# Altium schematic symbol library conectores.SchLib: 13 symbols
Pins are listed as number, name and electrical type; pins without a type are passive.

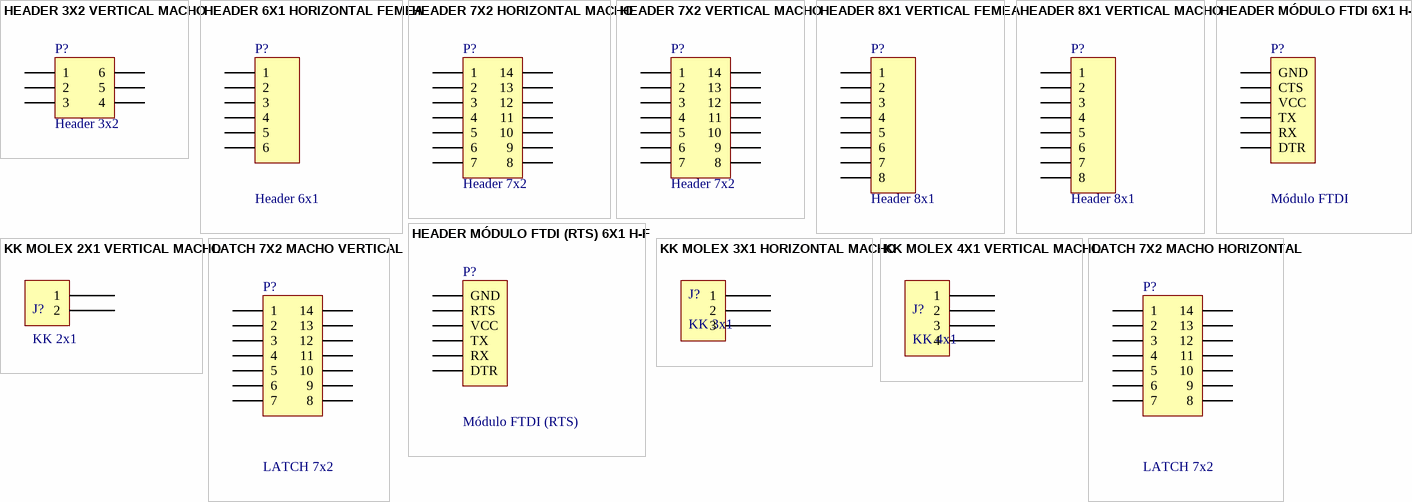
[diagram p0: symbols HEADER 3X2 VERTICAL MACHO to LATCH 7X2 MACHO VERTICAL]

## HEADER 3X2 VERTICAL MACHO
designator P?, comment Header 3x2
Header, 6-Pin, Dual row, Vertical, Male
footprint HEADER 3X2 VERTICAL MACHO (Connector; Header; 3x2 Position)
pins: 1, 2, 3, 4, 5, 6

## HEADER 6X1 HORIZONTAL FEMEA
designator P?, comment Header 6x1
Header, 6-Pin, Horizontal, Female
footprint HEADER 6X1 HORIZONTAL FEMEA (Connector; Header; 6 Position, Horizontal, Female)
pins: 1, 2, 3, 4, 5, 6

## HEADER 7X2 HORIZONTAL MACHO
designator P?, comment Header 7x2
Header, 7-Pin, Dual row, Horizontal, Male; Publisher: Altium Limited
footprint Header 7x2 Horizontal Macho (Connector; Header; 7x2 Position, Horizontal)
signal-integrity model Connector
pins: 1, 2, 3, 4, 5, 6, 7, 8, 9, 10, 11, 12, 13, 14

## HEADER 7X2 VERTICAL MACHO
designator P?, comment Header 7x2
Header, 7-Pin, Dual row, Vertical, Male; Publisher: Altium Limited
footprint Header 7x2 Vertical Macho (Connector; Header; 7x2 Position, Vertical)
signal-integrity model Connector
pins: 1, 2, 3, 4, 5, 6, 7, 8, 9, 10, 11, 12, 13, 14

## HEADER 8X1 VERTICAL FEMEA
designator P?, comment Header 8x1
Header, 8-Pin, Vertical, Female
footprint HEADER 8X1 VERTICAL FEMEA (Connector; Header; 8 Position, Vertical, Female)
signal-integrity model Connector
pins: 1, 2, 3, 4, 5, 6, 7, 8

## HEADER 8X1 VERTICAL MACHO
designator P?, comment Header 8x1
Header, 8-Pin, Vertical, Male
footprint HEADER 8X1 VERTICAL MACHO (Connector; Header; 8 Position, Vertical, Male)
signal-integrity model Connector
pins: 1, 2, 3, 4, 5, 6, 7, 8

## HEADER MÓDULO FTDI 6X1 H-F
designator P?, comment Módulo FTDI
Header, 6-Pin, Horizontal, Female; Obs: Visão da PCB, não do módulo
footprint HEADER 6X1 HORIZONTAL FEMEA (Connector; Header; 6 Position, Horizontal, Female)
pins: 1 GND, 2 CTS, 3 VCC, 4 TX, 5 RX, 6 DTR

## HEADER MÓDULO FTDI (RTS) 6X1 H-F
designator P?, comment Módulo FTDI (RTS)
Header, 6-Pin, Horizontal, Female; Obs: Visão da PCB, não do módulo; Obs: Versão com RTS, não CTS
footprint HEADER 6X1 HORIZONTAL FEMEA (Connector; Header; 6 Position, Horizontal, Female)
pins: 1 GND, 2 RTS, 3 VCC, 4 TX, 5 RX, 6 DTR

## KK MOLEX 2X1 VERTICAL MACHO
designator J?, comment KK 2x1
KK 2x1 Molex 396
footprint MOLEX KK 396 2 PINOS VERTICAL MACHO
pins: 1, 2

## KK MOLEX 3X1 HORIZONTAL MACHO
designator J?, comment KK 3x1
KK 3x1 Molex 396
footprint MOLEX KK 396 3 PINOS HORIZONTAL MACHO
pins: 1, 2, 3

## KK MOLEX 4X1 VERTICAL MACHO
designator J?, comment KK 4x1
KK 4x1 Molex 396
footprint MOLEX KK 396 4 PINOS VERTICAL MACHO
pins: 1, 2, 3, 4

## LATCH 7X2 MACHO HORIZONTAL
designator P?, comment LATCH 7x2
Header, 14-Pin, Dual row
footprint Shrouded Header Latch 2x7 90º Male (Connector, Shrouded Header, Double Row, Thru-Hole, 14 Position, Horizontal, Pitch 2mm)
signal-integrity model Connector
pins: 1, 2, 3, 4, 5, 6, 7, 8, 9, 10, 11, 12, 13, 14

## LATCH 7X2 MACHO VERTICAL
designator P?, comment LATCH 7x2
Header, 14-Pin, Dual row
footprint Shrouded Header Latch 2x7 Male (Connector, Shrouded Header, Double Row, Thru-Hole, 14 Position, Vertical, Pitch 2mm)
signal-integrity model Connector
pins: 1, 2, 3, 4, 5, 6, 7, 8, 9, 10, 11, 12, 13, 14